# Altium schematic symbol library SCH - POWER - SWITCHMODE - TI TPS54162-Q1_PWP_20.SchLib: 1 symbol
Pins are listed as number, name and electrical type; pins without a type are passive.

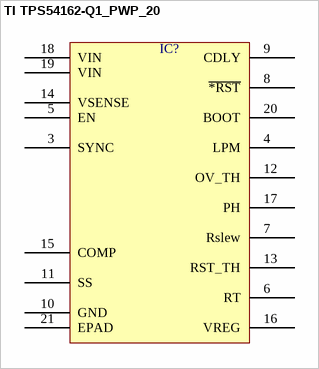
[diagram p0: symbol TI TPS54162-Q1_PWP_20]

## TI TPS54162-Q1_PWP_20
designator IC?  (value not drawn)
pins: 3 SYNC, 4 LPM, 5 EN, 6 RT, 7 Rslew, 8 ~{*RST}, 9 CDLY, 10 GND, 11 SS, 12 OV_TH, 13 RST_TH, 14 VSENSE, 15 COMP, 16 VREG, 17 PH, 18 VIN, 19 VIN, 20 BOOT, 21 EPAD